# EAGLE library part THS7314 (library TinyNES_Library)
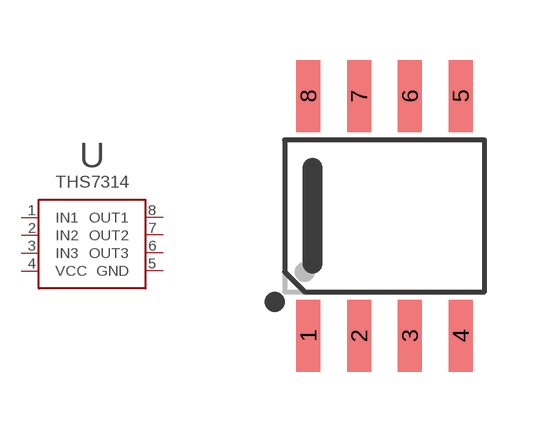
[diagram p9: symbol with the pads of SOIC-8; footprint SOIC-8]

Designator prefix U

## THS7314  [SOIC-8]
1  IN1
2  IN2
3  IN3
4  VCC
5  GND
6  OUT3
7  OUT2
8  OUT1

## Footprint SOIC-8 (pad centres in mm)
smd 0.6 x 1.8: 1 -1.905,-3; 2 -0.635,-3; 3 0.635,-3; 4 1.905,-3; 5 1.905,3; 6 0.635,3; 7 -0.635,3; 8 -1.905,3